# Altium integrated library REIS_PCB.IntLib: 28 symbols
Pins are listed as number, name and electrical type; pins without a type are passive.

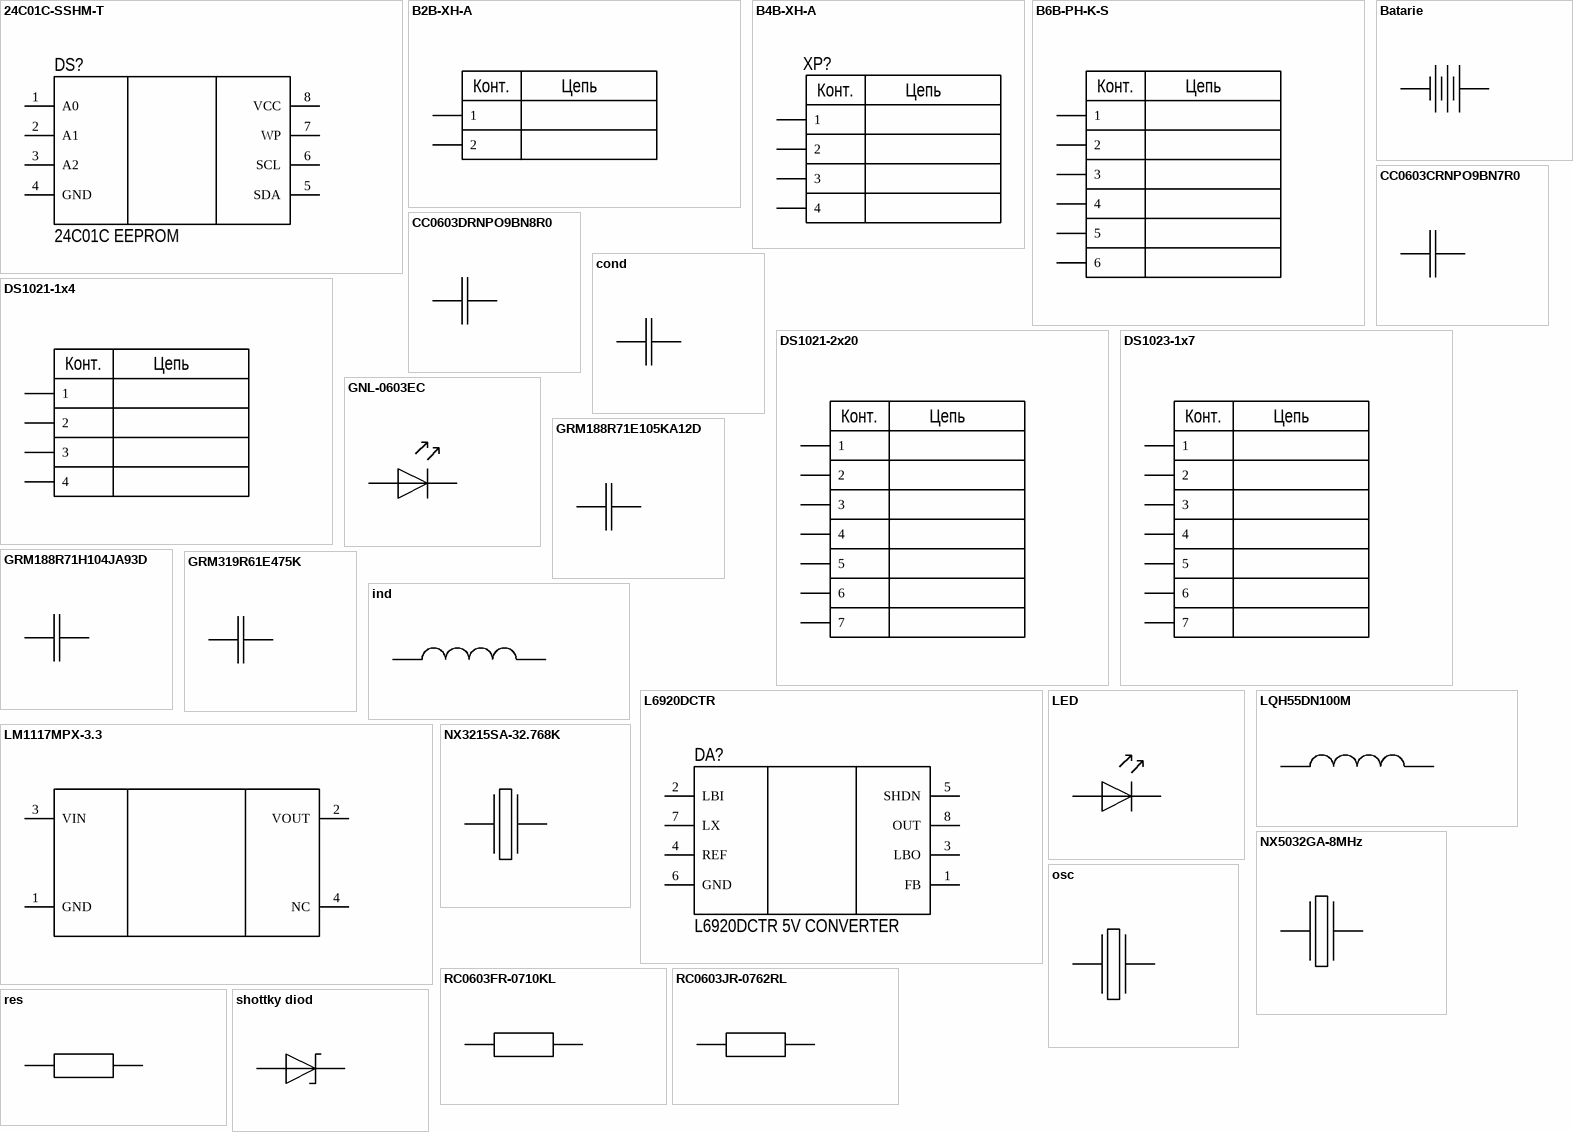
[diagram p0: symbols 24C01C-SSHM-T to shottky diod]

## 24C01C-SSHM-T
designator DS?, comment 24C01C EEPROM
Serial EEPROM; Manufacturer: Atmel; Model: 24C01C-SSHM-T; Family: Микросхема; ТУ: *; Name: *; Pins: 8; Package: SOIC8
footprint SOIC8
pins: 1 A0, 2 A1, 3 A2, 4 GND, 5 SDA, 6 SCL, 7 WP, 8 VCC
text: /

## B2B-XH-A
designator XP?  (value not drawn)
Power connector; Manufacturer: JST; Name: *; Family: Разъём; Model: B2B-XH-A; ТУ: *; Pins: 2; Package: Conn; Parameter 1: *; Parameter 2: *
footprint B2B-XH-A
pins: 1, 2
text: Конт.; Цепь

## B4B-XH-A
designator XP?  (value not drawn)
Connector 4pin; Manufacturer: JST; Name: *; Family: Разъём; Model: B4B-XH-A; ТУ: *; Pins: 4; Package: Conn; Parameter 1: *; Parameter 2: *; Parameter 3: *; Parameter 4: *
footprint B4B-XH-A
pins: 1, 2, 3, 4
text: Конт.; Цепь

## B6B-PH-K-S
designator XP?  (value not drawn)
SWDIO connector; Manufacturer: JST; Name: *; Family: Разъём; Model: B6B-PH-K-S; ТУ: *; Pins: 6; Package: Conn; Parameter 1: *; Parameter 2: *; Parameter 3: *; Parameter 4: *; Parameter 5: *; Parameter 6: *
footprint B6B-PH-K-S
pins: 1, 2, 3, 4, 5, 6
text: Конт.; Цепь

## Batarie
designator ?
Name: *; Family: *; Model: *; Manufacturer: *; ТУ: *; Pins: *; Package: *
pins: 1, 2

## CC0603CRNPO9BN7R0
designator C?  (value not drawn)
7pF capacitor; Manufacturer: Yageo; Voltage: 50V; Name: *; Family: Конденсатор; Model: CC0603CRNPO9BN7R0; ТУ: *; Pins: 2; Package: 0603; Capacity: 7pF
footprint 0603 (Chip Capacitor, 2-Leads, Body 1,60x0,80mm, IPC Medium Density)
pins: 1, 2

## CC0603DRNPO9BN8R0
designator C?  (value not drawn)
8pF capacitor; Manufacturer: Yageo; Voltage: 50V; Name: *; Family: Конденсатор; Model: CC0603DRNPO9BN8R0; ТУ: *; Pins: 2; Package: 0603; Capacity: 8pF
footprint 0603 (Chip Capacitor, 2-Leads, Body 1,60x0,80mm, IPC Medium Density)
pins: 1, 2

## cond
designator C?
Name: *; Family: *; Model: *; Manufacturer: *; ТУ: *; Pins: *; Package: *; Capacity: *; Voltage: *
pins: 1, 2

## DS1021-1x4
designator XP?  (value not drawn)
USART connector PLS4_DS1021-1x4; Manufacturer: Connfly; Name: *; Family: Разъём; Model: DS1021-1x4; ТУ: *; Pins: 4; Package: Conn; Parameter 1: *; Parameter 2: *; Parameter 3: *; Parameter 4: *
footprint DS1021-1x4
pins: 1, 2, 3, 4
text: Конт.; Цепь

## DS1021-2x20
designator XP?  (value not drawn)
Connector SIM7000E; Manufacturer: Connfly; Name: *; Family: Разъём; Model: DS1021-2x20; ТУ: *; Pins: 40; Package: Conn; Parameter 1: *; Parameter 2: *; Parameter 3: *; Parameter 4: *; Parameter 5: *; Parameter 6: *; Parameter 7: *
footprint DS1021-2x20
pins: 1, 2, 3, 4, 5, 6, 7
text: Конт.; Цепь

## DS1023-1x7
designator XP?  (value not drawn)
Connector E032 to PBS7_DS1023-1x7; Manufacturer: Connfly; Name: *; Family: Разъём; Model: DS1023-1x7; ТУ: *; Pins: 7; Package: Conn; Parameter 1: *; Parameter 2: *; Parameter 3: *; Parameter 4: *; Parameter 5: *; Parameter 6: *; Parameter 7: *
footprint DS1023-1x7
pins: 1, 2, 3, 4, 5, 6, 7
text: Конт.; Цепь

## GNL-0603EC
designator VD?  (value not drawn)
Red light-emitting diode; Manufacturer: G-nor; Name: *; Family: Диод; Model: GNL-0603EC; ТУ: *; Pins: 2; Package: 0603
footprint 0603LED
pins: 1, 2

## GRM188R71E105KA12D
designator C?  (value not drawn)
1uF capacitor; Manufacturer: Murata; Voltage: 25V; Name: *; Family: Конденсатор; Model: GRM188R71E105KA12D; ТУ: *; Pins: 2; Package: 0603; Capacity: 1uF
footprint 0603 (Chip Capacitor, 2-Leads, Body 1,60x0,80mm, IPC Medium Density)
pins: 1, 2

## GRM188R71H104JA93D
designator C?  (value not drawn)
0.1uF capacitor; Manufacturer: Murata; Voltage: 50V; Name: *; Family: Конденсатор; Model: GRM188R71H104JA93D; ТУ: *; Pins: 2; Package: 0603; Capacity: 0.1uF
footprint 0603 (Chip Capacitor, 2-Leads, Body 1,60x0,80mm, IPC Medium Density)
pins: 1, 2

## GRM319R61E475K
designator C?  (value not drawn)
47uF capacitor; Manufacturer: Murata; Voltage: 25V; Name: *; Family: Конденсатор; Model: GRM319R61E475K; ТУ: *; Pins: 2; Package: 1206; Capacity: 47uF
footprint 1206
pins: 1, 2

## ind
designator L?
Name: *; Family: *; Model: *; Manufacturer: *; ТУ: *; Pins: *; Package: *; Inductance: *
pins: 1, 2

## L6920DCTR
designator DA?, comment L6920DCTR 5V CONVERTER
Synchronous rectifier step up converter; Manufacturer: STMicroelectronics; Family: Микросхема; Model: L6920DCTR; ТУ: *; Name: *; Pins: 8; Package: MSOP
footprint MSOP
pins: 1 FB, 2 LBI, 3 LBO, 4 REF, 5 SHDN, 6 GND, 7 LX, 8 OUT
text: /

## LED
designator VD?
Name: *; Family: *; Model: *; Manufacturer: *; ТУ: *; Pins: *; Package: *
pins: 1, 2

## LM1117MPX-3.3
designator DD?  (value not drawn)
Linear regulator 3V3; Manufacturer: TI; Name: *; Family: Микросхема; Model: LM1117MPX-3.3; ТУ: *; Pins: 4; Package: SOT-223
footprint SOT223P700X180-4N (SOT223, 4-Leads, Body 6.50x7.00mm (avg), Pitch 2.30mm, IPC Medium Density)
pins: 1 GND, 2 VOUT, 3 VIN, 4 NC

## LQH55DN100M
designator L?  (value not drawn)
10 uH inductor; Manufacturer: Murata; Inductance: 10uH; Name: *; Family: Катушка индуктивности; Model: LQH55DN100M; ТУ: *; Pins: 2; Package: 2220
footprint 2220
pins: 1, 2

## NX3215SA-32.768K
designator BQ?  (value not drawn)
32.768kHz resonator; Manufacturer: NDK; Name: *; Family: Кварцевый резонатор; Model: NX3215SA-32.768K; ТУ: *; Pins: 4; Package: SMD; Frequency: 32.768kHz
footprint NX3215SA-32.768kHz
pins: 1, 2

## NX5032GA-8MHz
designator BQ?  (value not drawn)
8MHz resonator; Manufacturer: NDK; Name: *; Family: Кварцевый резонатор; Model: NX5032GA-8MHz; ТУ: *; Pins: 2; Package: SMD; Frequency: 8Mhz
footprint NX5032GA-8MHz
pins: 1, 2

## osc
designator BQ?
Name: *; Family: *; Model: *; Manufacturer: *; ТУ: *; Pins: *; Package: *
pins: 1, 2

## RC0603FR-0710KL
designator R?  (value not drawn)
10k resistor; Name: *; Family: Резистор; Model: RC0603FR-0710KL; Manufacturer: -; ТУ: *; Pins: 2; Package: 0603; Resistance: 10k
footprint 0603 (Chip Capacitor, 2-Leads, Body 1,60x0,80mm, IPC Medium Density)
pins: 1, 2

## RC0603JR-0762RL
designator R?  (value not drawn)
62Ohm resistor; Manufacturer: Тайвань; Resistance: 62; Family: *; Model: RC0603JR-0762RL; ТУ: *; Pins: 2; Package: 0603
footprint 0603 (Chip Capacitor, 2-Leads, Body 1,60x0,80mm, IPC Medium Density)
pins: 1, 2

## res
designator R?
Name: *; Family: *; Model: *; Manufacturer: *; ТУ: *; Pins: *; Package: *; Resistance: *
pins: 1, 2

## shottky diod
designator ?
Name: *; Family: *; Model: *; Manufacturer: *; ТУ: *; Pins: *; Package: *
pins: 1, 2

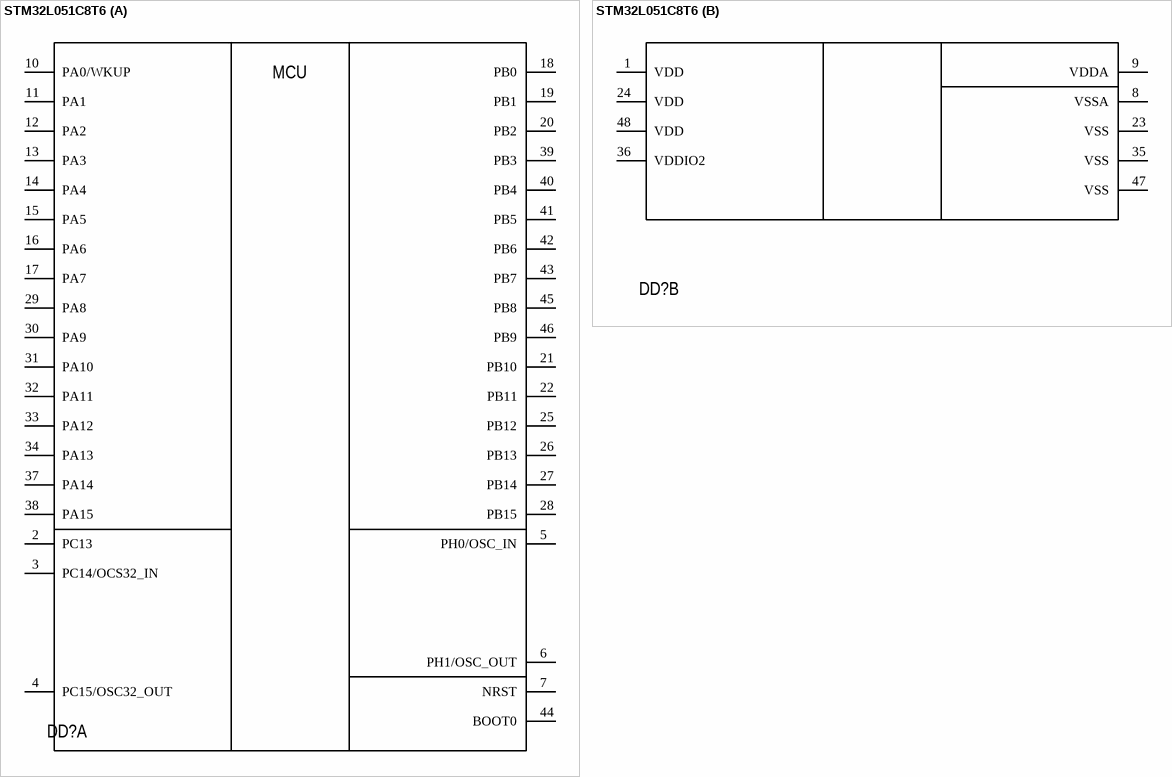
[diagram p1: symbol STM32L051C8T6]

## STM32L051C8T6
designator DD?, comment STM32 MCU  (value not drawn)
MCU STM32; Manufacturer: STMicroelectronics; Model: STM32L051C8T6; Name: *; Family: Микросхема; ТУ: *; Pins: 48; Package: LQFP48
footprint LQFP48
part A pins: 2 PC13, 3 PC14/OCS32_IN, 4 PC15/OSC32_OUT, 5 PH0/OSC_IN, 6 PH1/OSC_OUT, 7 NRST, 10 PA0/WKUP, 11 PA1, 12 PA2, 13 PA3, 14 PA4, 15 PA5, 16 PA6, 17 PA7, 18 PB0, 19 PB1, 20 PB2, 21 PB10, 22 PB11, 25 PB12, 26 PB13, 27 PB14, 28 PB15, 29 PA8, 30 PA9, 31 PA10, 32 PA11, 33 PA12, 34 PA13, 37 PA14, 38 PA15, 39 PB3, 40 PB4, 41 PB5, 42 PB6, 43 PB7, 44 BOOT0, 45 PB8, 46 PB9
part B pins: 1 VDD, 8 VSSA, 9 VDDA, 23 VSS, 24 VDD, 35 VSS, 36 VDDIO2, 47 VSS, 48 VDD
part A text: MCU